# Altium schematic symbol library rovables_motor_driver_v3.SCHLIB: 41 symbols
Pins are listed as number, name and electrical type; pins without a type are passive.

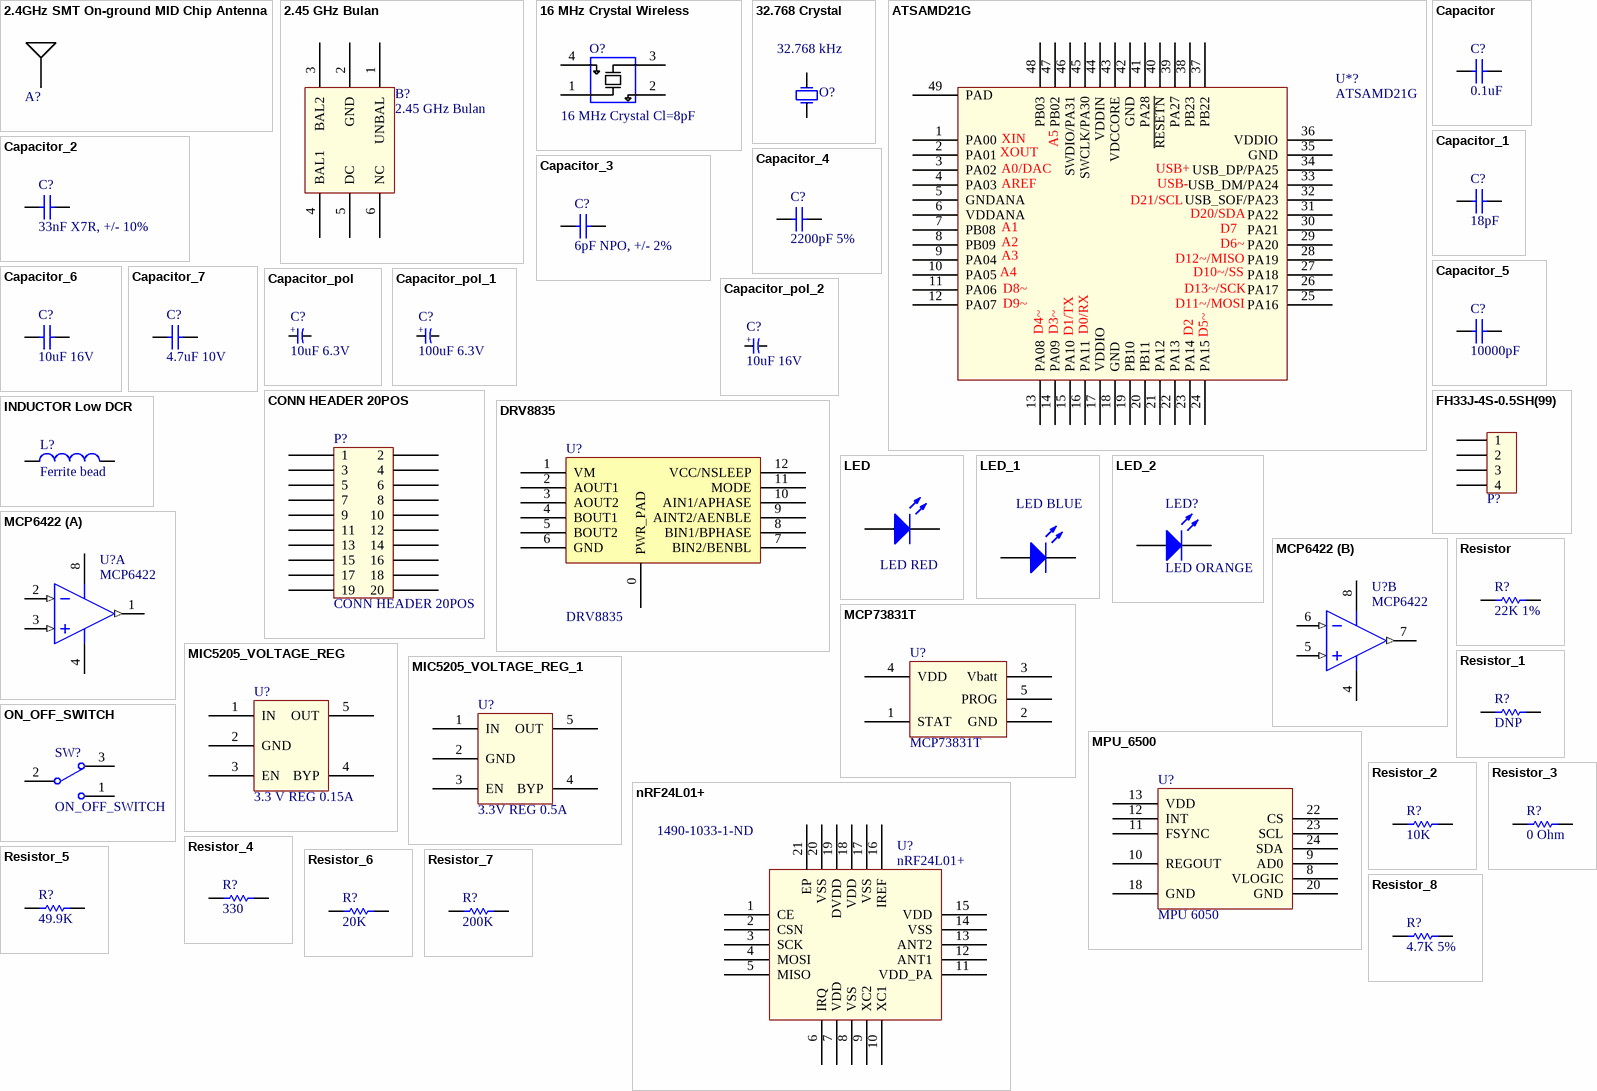
[diagram p0: symbols 2.4GHz SMT On-ground MID Chip Antenna to Resistor_8]

## 2.4GHz SMT On-ground MID Chip Antenna
designator A?  (value not drawn)
Bluetooth antenna; manufacturer: Molex; manufacturer part number: 47948-0001; digikey part number: WM4893CT-ND; Supplier 1: Digi-Key; Supplier Part Number 1: WM4893CT-ND
footprint 47948-0001 (2.4GHz SMT On-ground MID Chip Antenna)
pins: 1

## 2.45 GHz Bulan
designator B?
for nRF8001 chip; digikey number: 712-1574-1-ND; Supplier 1: Digi-Key; Supplier Part Number 1: 712-1574-1-ND
footprint 2450BM14A0002 (Balun for nRF8001)
pins: 1 UNBAL, 2 GND, 3 BAL2, 4 BAL1, 5 DC, 6 NC

## 16 MHz Crystal Wireless
designator O?, comment 16 MHz Crystal Cl=8pF
For BLE use; digikey number: 644-1169-1-ND; Supplier 1: Digi-Key; Supplier Part Number 1: 644-1169-1-ND
footprint 2.5 x 2.0 crystal
pins: 1 XIN, 2 Gnd, 3 XOUT, 4 Gnd

## 32.768 Crystal
designator O?, comment 32.768 kHz
digikey number: XC1617CT-ND; Supplier 1: Digi-Key; Supplier Part Number 1: XC1617CT-ND
footprint 32.768 Crystal (for BLE radio)
pins: 1, 2

## ATSAMD21G
designator U*?
IC MCU 32BIT 256KB FLASH 48TQFP; digikey part number: ATSAMD21G18A-AUTCT-ND; Supplier 1: Digi-Key; Supplier Part Number 1: ATSAMD21G18A-AUTCT-ND
footprint TQFN48 (TSQFP, 48-Leads, Body 7.00x7.00mm, Pitch 0.50mm, IPC High Density)
footprint QFN48
pins: 1 PA00, 2 PA01, 3 PA02, 4 PA03, 5 GNDANA, 6 VDDANA, 7 PB08, 8 PB09, 9 PA04, 10 PA05, 11 PA06, 12 PA07, 13 PA08, 14 PA09, 15 PA10, 16 PA11, 17 VDDIO, 18 GND, 19 PB10, 20 PB11, 21 PA12, 22 PA13, 23 PA14, 24 PA15, 25 PA16, 26 PA17, 27 PA18, 28 PA19, 29 PA20, 30 PA21, 31 PA22, 32 USB_SOF/PA23, 33 USB_DM/PA24, 34 USB_DP/PA25, 35 GND, 36 VDDIO, 37 PB22, 38 PB23, 39 PA27, 40 ~{RESETN}, 41 PA28, 42 GND, 43 VDCCORE, 44 VDDIN, 45 SWCLK/PA30, 46 SWDIO/PA31, 47 PB02, 48 PB03, 49 PAD
text: XIN; A5; XOUT; A0/DAC; USB+; AREF; USB-; D21/SCL; D20/SDA; A1; D7; A2; D6~; A3; D12~/MISO; A4; D10~/SS; D8~; D13~/SCK; D9~; D11~/MOSI; D4~; D3~; D1/TX; D0/RX; D2; D5~

## Capacitor
designator C?, comment 0.1uF
SMD Cap 1206; Supplier 1: Digikey; Supplier Part Number 1: 311-1343-1-ND
footprint RES_1206_SMD
footprint CAP_1210
footprint 0603W
footprint 0402W
footprint 0402_CAP (Chip Capacitor, 2-Leads, Body 1.00x0.50mm, IPC Medium Density)
footprint 0402 CAPACITOR
pins: 1, 2

## Capacitor_1
designator C?, comment 18pF
SMD Cap 1206; Supplier 1: Digikey; Supplier Part Number 1: 490-5858-1-ND
footprint RES_1206_SMD
footprint CAP_1210
footprint 0603W
footprint 0402W
footprint 0402_CAP (Chip Capacitor, 2-Leads, Body 1.00x0.50mm, IPC Medium Density)
footprint 0402 CAPACITOR
pins: 1, 2

## Capacitor_2
designator C?, comment 33nF X7R, +/- 10%
SMD Cap 1206; digikey number: 490-1532-1-ND; Supplier 1: Digikey; Supplier Part Number 1: 399-4891-1-ND
footprint RES_1206_SMD
footprint CAP_1210
footprint 0603W
footprint 0402W
footprint 0402 CAPACITOR
pins: 1, 2

## Capacitor_3
designator C?, comment 6pF NPO, +/- 2%
SMD Cap 1206; digikey number: 490-8223-1-ND; Supplier 1: Digikey; Supplier Part Number 1: 490-8223-6-ND
footprint RES_1206_SMD
footprint CAP_1210
footprint 0603W
footprint 0402W
footprint 0402 CAPACITOR
pins: 1, 2

## Capacitor_4
designator C?, comment 2200pF 5%
SMD Cap 1206; digikey number: 399-8957-1-ND; Supplier 1: Digikey; Supplier Part Number 1: 399-8957-1-ND
footprint RES_1206_SMD
footprint CAP_1210
footprint 0603W
footprint 0402W
footprint 0402 CAPACITOR
pins: 1, 2

## Capacitor_5
designator C?, comment 10000pF
SMD Cap 1206; digikey number: 587-3383-1-ND; Supplier 1: Digikey; Supplier Part Number 1: 490-4516-1-ND
footprint RES_1206_SMD
footprint CAP_1210
footprint 0603W
footprint 0402W
footprint 0402 CAPACITOR
pins: 1, 2

## Capacitor_6
designator C?, comment 10uF 16V
SMD Cap 1206; Supplier 1: Digikey; Supplier Part Number 1: 490-3298-1-ND; Supplier 2: Mouser; Supplier Part Number 2: 81-GRM188C81C106MA3D
footprint RES_1206_SMD
footprint CAP_1210
footprint 0603W
footprint 0402W
pins: 1, 2

## Capacitor_7
designator C?, comment 4.7uF 10V
SMD Cap 1206; Supplier 1: Digikey; Supplier Part Number 1: 490-10477-1-ND
footprint RES_1206_SMD
footprint CAP_1210
footprint 0603W
footprint 0402W
pins: 1, 2

## Capacitor_pol
designator C?, comment 10uF 6.3V
Polarised capacitor; digikey part number: 478-9265-1-ND; Supplier 1: Digi-Key; Supplier Part Number 1: 478-9265-1-ND
footprint CAP0201 (Chip Capacitor, 2-Leads, Body 0.6x0.3mm, IPC Medium Density)
footprint CAP0402 (Chip Capacitor, 2-Leads, Body 1.0x0.5mm, IPC Medium Density)
footprint CAP0603 (Chip Capacitor, 2-Leads, Body 1.6x0.8mm, IPC Medium Density)
footprint CAP0805 (Chip Capacitor, 2-Leads, Body 2.0x1.2mm, IPC Medium Density)
footprint CAP1206 (Chip Capacitor, 2-Leads, Body 3.2x1.6mm, IPC Medium Density)
footprint CAP1210 (Chip Capacitor, 2-Leads, Body 3.2x2.5mm, IPC Medium Density)
footprint 0805 TANTALUM
pins: 1, 2
text: +

## Capacitor_pol_1
designator C?, comment 100uF 6.3V
Polarised capacitor; digikey part number 1206: 718-1920-1-ND; digikey part numbe 0805: 478-6613-2-ND; Supplier 1: Digikey; Supplier Part Number 1: 718-1920-1-ND
footprint CAP0201 (Chip Capacitor, 2-Leads, Body 0.6x0.3mm, IPC Medium Density)
footprint CAP0402 (Chip Capacitor, 2-Leads, Body 1.0x0.5mm, IPC Medium Density)
footprint CAP0603 (Chip Capacitor, 2-Leads, Body 1.6x0.8mm, IPC Medium Density)
footprint CAP0805 (Chip Capacitor, 2-Leads, Body 2.0x1.2mm, IPC Medium Density)
footprint CAP1206 (Chip Capacitor, 2-Leads, Body 3.2x1.6mm, IPC Medium Density)
footprint CAP1210 (Chip Capacitor, 2-Leads, Body 3.2x2.5mm, IPC Medium Density)
pins: 1, 2
text: +

## Capacitor_pol_2
designator C?, comment 10uF 16V
Polarised capacitor; digikey part number: 478-8654-1-ND; Supplier 1: Digi-Key; Supplier Part Number 1: 478-8654-1-ND
footprint CAP0201 (Chip Capacitor, 2-Leads, Body 0.6x0.3mm, IPC Medium Density)
footprint CAP0402 (Chip Capacitor, 2-Leads, Body 1.0x0.5mm, IPC Medium Density)
footprint CAP0603 (Chip Capacitor, 2-Leads, Body 1.6x0.8mm, IPC Medium Density)
footprint CAP0805 (Chip Capacitor, 2-Leads, Body 2.0x1.2mm, IPC Medium Density)
footprint CAP1206 (Chip Capacitor, 2-Leads, Body 3.2x1.6mm, IPC Medium Density)
footprint CAP1210 (Chip Capacitor, 2-Leads, Body 3.2x2.5mm, IPC Medium Density)
pins: 1, 2
text: +

## CONN HEADER 20POS
designator P?
manufacturer part number: DF12D(4.0)-20DP-0.5V(81); manufacturer: Hirose Electric Co Ltd; digikey part number: H11743CT-ND; Supplier 1: Digi-Key; Supplier Part Number 1: H11743CT-ND
footprint DF12 20 POS
pins: 1, 2, 3, 4, 5, 6, 7, 8, 9, 10, 11, 12, 13, 14, 15, 16, 17, 18, 19, 20

## DRV8835
designator U?
manufacturer: Texas Instruments; manufacturer part number: DRV8835DSSR; digikey part number: 296-30391-1-ND; Supplier 1: Digi-Key; Supplier Part Number 1: 296-30391-1-ND
footprint WSON-16
pins: 0 PWR_PAD, 1 VM, 2 AOUT1, 3 AOUT2, 4 BOUT1, 5 BOUT2, 6 GND, 7 BIN2/BENBL, 8 BIN1/BPHASE, 9 AINT2/AENBLE, 10 AIN1/APHASE, 11 MODE, 12 VCC/NSLEEP

## FH33J-4S-0.5SH(99)
designator P?  (value not drawn)
0.5mm FPC connector; digikey part number: H124646CT-ND; Supplier 1: Digi-Key; Supplier Part Number 1: H124646CT-ND
footprint FH33J-4S-0.5SH(99)
pins: 1, 2, 3, 4

## INDUCTOR Low DCR
designator L?, comment Ferrite bead
Digikey: 490-5223-2-ND; Supplier 1: Digikey; Supplier Part Number 1: 490-5223-2-ND
footprint NR6028 Inductor
footprint 0402_INDUCTOR (Chip Inductor, 2-Leads, Body 1.00x0.50mm, IPC Medium Density)
footprint 0603W
pins: 1, 2

## LED
designator LED?, comment LED RED
LED SMD 1206/0603; Supplier 1: Digikey; Supplier Part Number 1: LNJ247W82RACT-ND
footprint RES_1206_SMD
footprint 0603W
footprint 0402W
footprint 0402 RESISTOR
pins: 1 A, 2 K

## LED_1
designator LED?, comment LED BLUE
LED SMD 1206/0603; Supplier 1: Digikey; Supplier Part Number 1: LNJ947W8CRACT-ND
footprint RES_1206_SMD
footprint 0603W
footprint 0402W
footprint 0402 RESISTOR
pins: 1 A, 2 K

## LED_2
designator LED?, comment LED ORANGE
LED SMD 1206/0603; Supplier 1: Digikey; Supplier Part Number 1: LNJ437W84RACT-ND
footprint RES_1206_SMD
footprint 0603W
footprint 0402W
pins: 1 A, 2 K

## MCP6422
designator U?
4.4 µA/Amplifier, 90 kHz Op Amp; manufacturer: Microchip Technology; manufacturer part number: MCP6422-E/MS; digikey part number: MCP6422-E/MS-ND
footprint MSOP-MS8_N
part A pins: 1 VOUTA (out), 2 VINA- (in), 3 VINA+ (in), 4 VSS (power), 8 VDD (power)
part B pins: 4 VSS (power), 5 VINB+ (in), 6 VINB- (in), 7 VOUTB (out), 8 VDD (power)

## MCP73831T
designator U?
manufacturer part number: MCP73831T-2ACI/OT; manufacturer: Microchip; digikey part number: MCP73831T-2ACI/OTTR-ND; Supplier 1: Digi-Key; Supplier Part Number 1: MCP73831T-2ACI/OTCT-ND
footprint SOT-23-5 (3D view)
pins: 1 STAT, 2 GND, 3 Vbatt, 4 VDD, 5 PROG

## MIC5205_VOLTAGE_REG
designator U?, comment 3.3 V REG 0.15A
5V LDO SMD; Sparkfun #: PRT-1125; digikey number: 576-1259-1-ND; Supplier 1: Digi-Key; Supplier Part Number 1: 576-1259-1-ND; Supplier 2: Digikey; Supplier Part Number 2: 576-1259-1-ND
footprint SOT-23-5
pins: 1 IN, 2 GND, 3 EN, 4 BYP, 5 OUT

## MIC5205_VOLTAGE_REG_1
designator U?, comment 3.3V REG 0.5A
5V LDO SMD; Supplier 1: Digikey; Supplier Part Number 1: 576-1281-1-ND
footprint SOT-23-5
pins: 1 IN, 2 GND, 3 EN, 4 BYP, 5 OUT

## MPU_6500
designator U?, comment MPU 6050
Gyro / accelerometer combo; Supplier 1: Digi-Key; Supplier Part Number 1: 1428-1007-1-ND
footprint QFN24 (pitch 0.5mm)
pins: 8 VLOGIC, 9 AD0, 10 REGOUT, 11 FSYNC, 12 INT, 13 VDD, 18 GND, 20 GND, 22 CS, 23 SCL, 24 SDA

## nRF24L01+
designator U?  Supplier Part Number 1: 1490-1033-1-ND
2.4 GHz Radio; manufacturer part number: nRF24L01P-R; digikey part number: 1490-1033-1-ND; Supplier 1: Digi-Key
footprint QFN20 (QFN, 20-Leads, Body 4.00x4.00mm, Pitch 0.50mm, Thermal Pad 2.50x2.50mm, IPC Low Density)
pins: 1 CE, 2 CSN, 3 SCK, 4 MOSI, 5 MISO, 6 IRQ, 7 VDD, 8 VSS, 9 XC2, 10 XC1, 11 VDD_PA, 12 ANT1, 13 ANT2, 14 VSS, 15 VDD, 16 IREF, 17 VSS, 18 VDD, 19 DVDD, 20 VSS, 21 EP

## ON_OFF_SWITCH
designator SW?
SPDT SMD Side Switch; Sparkfun#: COM-00597; digikey number: 563-1102-1-ND; Supplier 1: Digi-Key; Supplier Part Number 1: 563-1102-1-ND
footprint SWTICH_SMD_SIDE
footprint SS321 Switch (SPDT Slide Switch)
pins: 1, 2, 3

## Resistor
designator R?, comment 22K 1%
digikey number: P20.0KLCT-ND; Supplier 1: Digikey; Supplier Part Number 1: 311-22.0KLRCT-ND
footprint RES_1206_SMD
footprint 0603W
footprint 0402W
footprint 0402 RESISTOR
pins: 1, 2

## Resistor_1
designator R?, comment DNP
digikey number: RMCF0603FT10K0CT-ND; Supplier 1: Digikey; Supplier Part Number 1: 311-0.0GRCT-ND
footprint RES_1206_SMD
footprint 0603W
footprint 0402W
footprint 0402 RESISTOR
pins: 1, 2

## Resistor_2
designator R?, comment 10K
Supplier 1: Digikey; Supplier Part Number 1: 311-10KJRCT-ND
footprint RES_1206_SMD
footprint 0603W
footprint 0402W
footprint 0402 RESISTOR (3d model updated)
pins: 1, 2

## Resistor_3
designator R?, comment 0 Ohm
digikey number: RMCF0603FT10K0CT-ND; Supplier 1: Digikey; Supplier Part Number 1: 311-0.0GRCT-ND
footprint RES_1206_SMD
footprint 0603W
footprint 0402W
footprint 0402 RESISTOR
pins: 1, 2

## Resistor_4
designator R?, comment 330
digikey number: RMCF0603FT10K0CT-ND; Supplier 1: Digikey; Supplier Part Number 1: 311-330JRCT-ND
footprint RES_1206_SMD
footprint 0603W
footprint 0402W
footprint 0402 RESISTOR
pins: 1, 2

## Resistor_5
designator R?, comment 49.9K
digikey part number: *; manufacturer: *; manufacturer part number: *; Supplier 1: Digikey; Supplier Part Number 1: 311-49.9KHRCT-ND
footprint RES_1206_SMD
footprint 0603W
footprint 0402W
footprint 0402 RESISTOR
pins: 1, 2

## Resistor_6
designator R?, comment 20K
digikey part number: *; manufacturer: *; manufacturer part number: *; Supplier 1: Digikey; Supplier Part Number 1: 311-20.0KHRCT-ND
footprint RES_1206_SMD
footprint 0603W
footprint 0402W
footprint 0402 RESISTOR
pins: 1, 2

## Resistor_7
designator R?, comment 200K
digikey part number: *; manufacturer: *; manufacturer part number: *; Supplier 1: Digikey; Supplier Part Number 1: 311-200KHRCT-ND
footprint RES_1206_SMD
footprint 0603W
footprint 0402W
footprint 0402 RESISTOR
pins: 1, 2

## Resistor_8
designator R?, comment 4.7K 5%
digikey number: RMCF0603FT10K0CT-ND; Supplier 1: Digikey; Supplier Part Number 1: 311-4.7KJRCT-ND
footprint RES_1206_SMD
footprint 0603W
footprint 0402W
footprint 0402 RESISTOR
pins: 1, 2

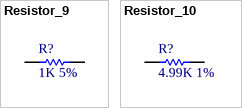
[diagram p1: symbols Resistor_9 to Resistor_10]

## Resistor_9
designator R?, comment 1K 5%
Supplier 1: Digikey; Supplier Part Number 1: 311-10KGRCT-ND
footprint RES_1206_SMD
footprint 0603W
footprint 0402W
footprint 0402 RESISTOR
pins: 1, 2

## Resistor_10
designator R?, comment 4.99K 1%
digikey part number: *; manufacturer: *; manufacturer part number: *; Supplier 1: Digikey; Supplier Part Number 1: P4.99KHCT-ND
footprint RES_1206_SMD
footprint 0603W
footprint 0402W
footprint 0402 RESISTOR
pins: 1, 2